# Altium schematic symbol library FET_Relay.SchLib: 1 symbol
Pins are listed as number, name and electrical type; pins without a type are passive.

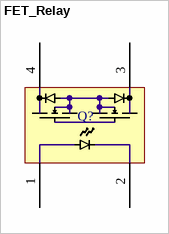
[diagram p0: symbol FET_Relay]

## FET_Relay
designator Q?  (value not drawn)
pins: 1, 2, 3, 4